# EAGLE library part ERF8-040-XX-X-D-RA (library con-samtec-er8)
ERF8 Series - Female Right Angle Edge Mount
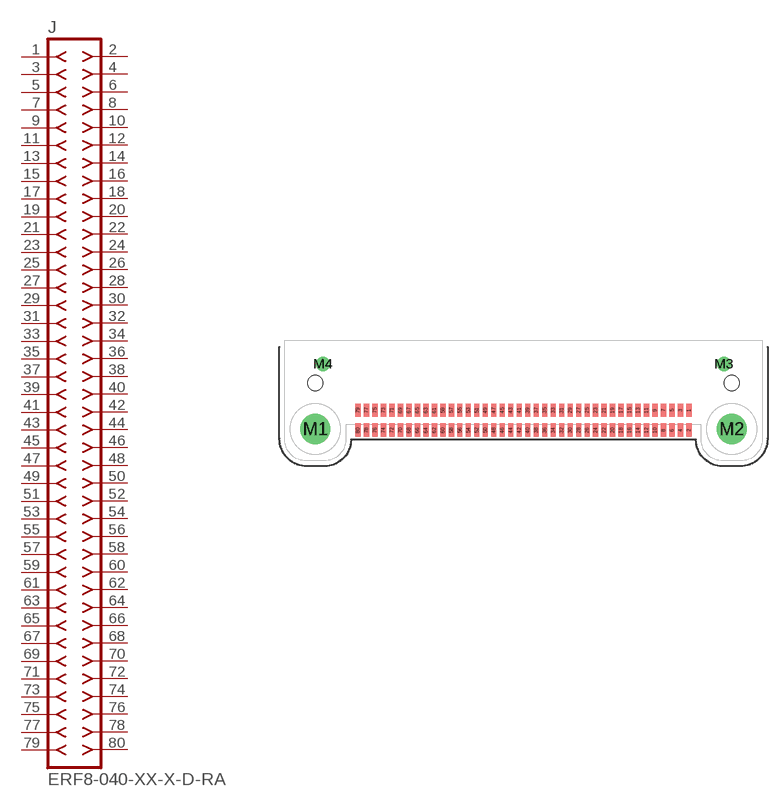
[diagram p36: symbol with the pads of ERF8-040-XX-X-D-RA; footprint ERF8-040-XX-X-D-RA]

Designator prefix J

## ERF8-040-XX-X-D-RA  [ERF8-040-XX-X-D-RA]
1  1  pas
2  2  pas
3  3  pas
4  4  pas
5  5  pas
6  6  pas
7  7  pas
8  8  pas
9  9  pas
10  10  pas
11  11  pas
12  12  pas
13  13  pas
14  14  pas
15  15  pas
16  16  pas
17  17  pas
18  18  pas
19  19  pas
20  20  pas
21  21  pas
22  22  pas
23  23  pas
24  24  pas
25  25  pas
26  26  pas
27  27  pas
28  28  pas
29  29  pas
30  30  pas
31  31  pas
32  32  pas
33  33  pas
34  34  pas
35  35  pas
36  36  pas
37  37  pas
38  38  pas
39  39  pas
40  40  pas
41  41  pas
42  42  pas
43  43  pas
44  44  pas
45  45  pas
46  46  pas
47  47  pas
48  48  pas
49  49  pas
50  50  pas
51  51  pas
52  52  pas
53  53  pas
54  54  pas
55  55  pas
56  56  pas
57  57  pas
58  58  pas
59  59  pas
60  60  pas
61  61  pas
62  62  pas
63  63  pas
64  64  pas
65  65  pas
66  66  pas
67  67  pas
68  68  pas
69  69  pas
70  70  pas
71  71  pas
72  72  pas
73  73  pas
74  74  pas
75  75  pas
76  76  pas
77  77  pas
78  78  pas
79  79  pas
80  80  pas

## Footprint ERF8-040-XX-X-D-RA (pad centres in mm)
0.8mm Edge Rate Terminal Assembly FEMALE, Double Row Right Angle, 40 Position
smd 0.5 x 1.25: 1 15.6,0.94; 2 15.6,-0.94; 3 14.8,0.94; 4 14.8,-0.94; 5 14,0.94; 6 14,-0.94; 7 13.2,0.94; 8 13.2,-0.94; 9 12.4,0.94; 10 12.4,-0.94; 11 11.6,0.94; 12 11.6,-0.94; 13 10.8,0.94; 14 10.8,-0.94; 15 10,0.94; 16 10,-0.94; 17 9.2,0.94; 18 9.2,-0.94; 19 8.4,0.94; 20 8.4,-0.94; 21 7.6,0.94; 22 7.6,-0.94; 23 6.8,0.94; 24 6.8,-0.94; 25 6,0.94; 26 6,-0.94; 27 5.2,0.94; 28 5.2,-0.94; 29 4.4,0.94; 30 4.4,-0.94; 31 3.6,0.94; 32 3.6,-0.94; 33 2.8,0.94; 34 2.8,-0.94; 35 2,0.94; 36 2,-0.94; 37 1.2,0.94; 38 1.2,-0.94; 39 0.4,0.94; 40 0.4,-0.94; 41 -0.4,0.94; 42 -0.4,-0.94; 43 -1.2,0.94; 44 -1.2,-0.94; 45 -2,0.94; 46 -2,-0.94; 47 -2.8,0.94; 48 -2.8,-0.94; 49 -3.6,0.94; 50 -3.6,-0.94; 51 -4.4,0.94; 52 -4.4,-0.94; 53 -5.2,0.94; 54 -5.2,-0.94; 55 -6,0.94; 56 -6,-0.94; 57 -6.8,0.94; 58 -6.8,-0.94; 59 -7.6,0.94; 60 -7.6,-0.94; 61 -8.4,0.94; 62 -8.4,-0.94; 63 -9.2,0.94; 64 -9.2,-0.94; 65 -10,0.94; 66 -10,-0.94; 67 -10.8,0.94; 68 -10.8,-0.94; 69 -11.6,0.94; 70 -11.6,-0.94; 71 -12.4,0.94; 72 -12.4,-0.94; 73 -13.2,0.94; 74 -13.2,-0.94; 75 -14,0.94; 76 -14,-0.94; 77 -14.8,0.94; 78 -14.8,-0.94; 79 -15.6,0.94; 80 -15.6,-0.94
drill 1.905 pad 2.41: M1 -19.625,-0.835; M2 19.625,-0.835
drill 0.63 pad 1.4: M3 18.9,5.295; M4 -18.9,5.295
hole 1.45 at -19.625,3.515
hole 1.45 at 19.625,3.515